# EAGLE library part BQ75614 (library Bauteile)
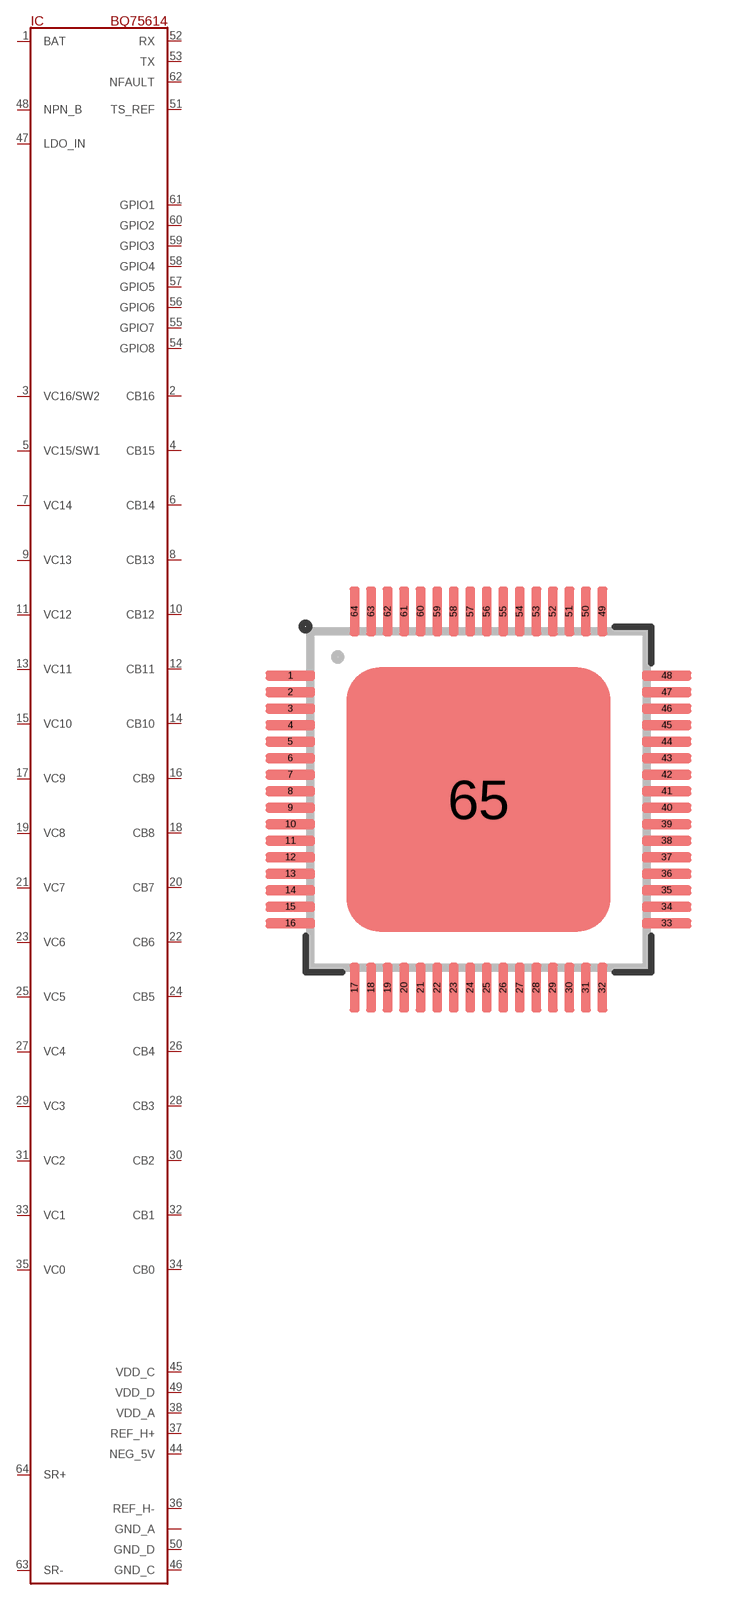
[diagram p166: symbol with the pads of TQFP64-0.5_POWERPAD; footprint TQFP64-0.5_POWERPAD]

Designator prefix IC

## BQ75614  [TQFP64-0.5_POWERPAD]
1  BAT
2  CB16
3  VC16/SW2
4  CB15
5  VC15/SW1
6  CB14
7  VC14
8  CB13
9  VC13
10  CB12
11  VC12
12  CB11
13  VC11
14  CB10
15  VC10
16  CB9
17  VC9
18  CB8
19  VC8
20  CB7
21  VC7
22  CB6
23  VC6
24  CB5
25  VC5
26  CB4
27  VC4
28  CB3
29  VC3
30  CB2
31  VC2
32  CB1
33  VC1
34  CB0
35  VC0
36  REF_H-
37  REF_H+
38  VDD_A
39  GND_A
44  NEG_5V
45  VDD_C
46  GND_C
47  LDO_IN
48  NPN_B
49  VDD_D
50  GND_D
51  TS_REF
52  RX
53  TX
54  GPIO8
55  GPIO7
56  GPIO6
57  GPIO5
58  GPIO4
59  GPIO3
60  GPIO2
61  GPIO1
62  NFAULT
63  SR-
64  SR+
65  GND_A

## Footprint TQFP64-0.5_POWERPAD (pad centres in mm)
smd 1.5 x 0.3: 1 -5.7,3.75; 2 -5.7,3.25; 3 -5.7,2.75; 4 -5.7,2.25; 5 -5.7,1.75; 6 -5.7,1.25; 7 -5.7,0.75; 8 -5.7,0.25; 9 -5.7,-0.25; 10 -5.7,-0.75; 11 -5.7,-1.25; 12 -5.7,-1.75; 13 -5.7,-2.25; 14 -5.7,-2.75; 15 -5.7,-3.25; 16 -5.7,-3.75; 33 5.7,-3.75; 34 5.7,-3.25; 35 5.7,-2.75; 36 5.7,-2.25; 37 5.7,-1.75; 38 5.7,-1.25; 39 5.7,-0.75; 40 5.7,-0.25; 41 5.7,0.25; 42 5.7,0.75; 43 5.7,1.25; 44 5.7,1.75; 45 5.7,2.25; 46 5.7,2.75; 47 5.7,3.25; 48 5.7,3.75
smd 0.3 x 1.5: 17 -3.75,-5.7; 18 -3.25,-5.7; 19 -2.75,-5.7; 20 -2.25,-5.7; 21 -1.75,-5.7; 22 -1.25,-5.7; 23 -0.75,-5.7; 24 -0.25,-5.7; 25 0.25,-5.7; 26 0.75,-5.7; 27 1.25,-5.7; 28 1.75,-5.7; 29 2.25,-5.7; 30 2.75,-5.7; 31 3.25,-5.7; 32 3.75,-5.7; 49 3.75,5.7; 50 3.25,5.7; 51 2.75,5.7; 52 2.25,5.7; 53 1.75,5.7; 54 1.25,5.7; 55 0.75,5.7; 56 0.25,5.7; 57 -0.25,5.7; 58 -0.75,5.7; 59 -1.25,5.7; 60 -1.75,5.7; 61 -2.25,5.7; 62 -2.75,5.7; 63 -3.25,5.7; 64 -3.75,5.7
smd 8 x 8: 65 0,0